# EAGLE library part TLM_20_AA (library ArdDisp)
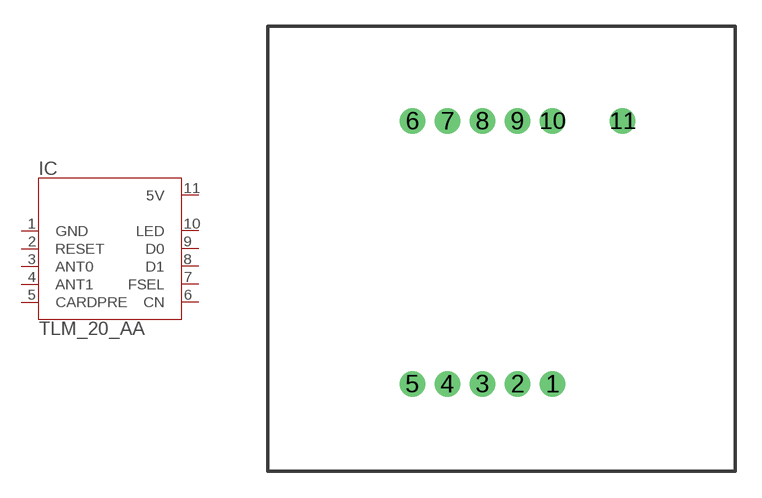
[diagram p19: symbol with the pads of TLM_20_AA; footprint TLM_20_AA]

Designator prefix IC

## TLM_20_AA20  [TLM_20_AA]
1  GND  in
2  RESET  in
3  ANT0
4  ANT1
5  CARDPRE
6  CN
7  FSEL  in
8  D1
9  D0
10  LED
11  5V  in

## Footprint TLM_20_AA (pad centres in mm)
drill 0.9 pad 1.45: 1 16.25,5; 2 14.25,5; 3 12.25,5; 4 10.25,5; 5 8.25,5; 6 8.25,20; 7 10.25,20; 8 12.25,20; 9 14.25,20; 10 16.25,20; 11 20.25,20